# Altium footprint library 插座.PcbLib: 91 footprints (part 1 of 6)
Each footprint in its own frame and in the unit in brackets; x right, y up, seen from the top. Pads: shape width x height; smd on the part's side, far side on the other; paste and mask are expansions set on the pad; w line width, h text height; cw(c..) or ccw(c..) is an arc to the next point about the centre after c.
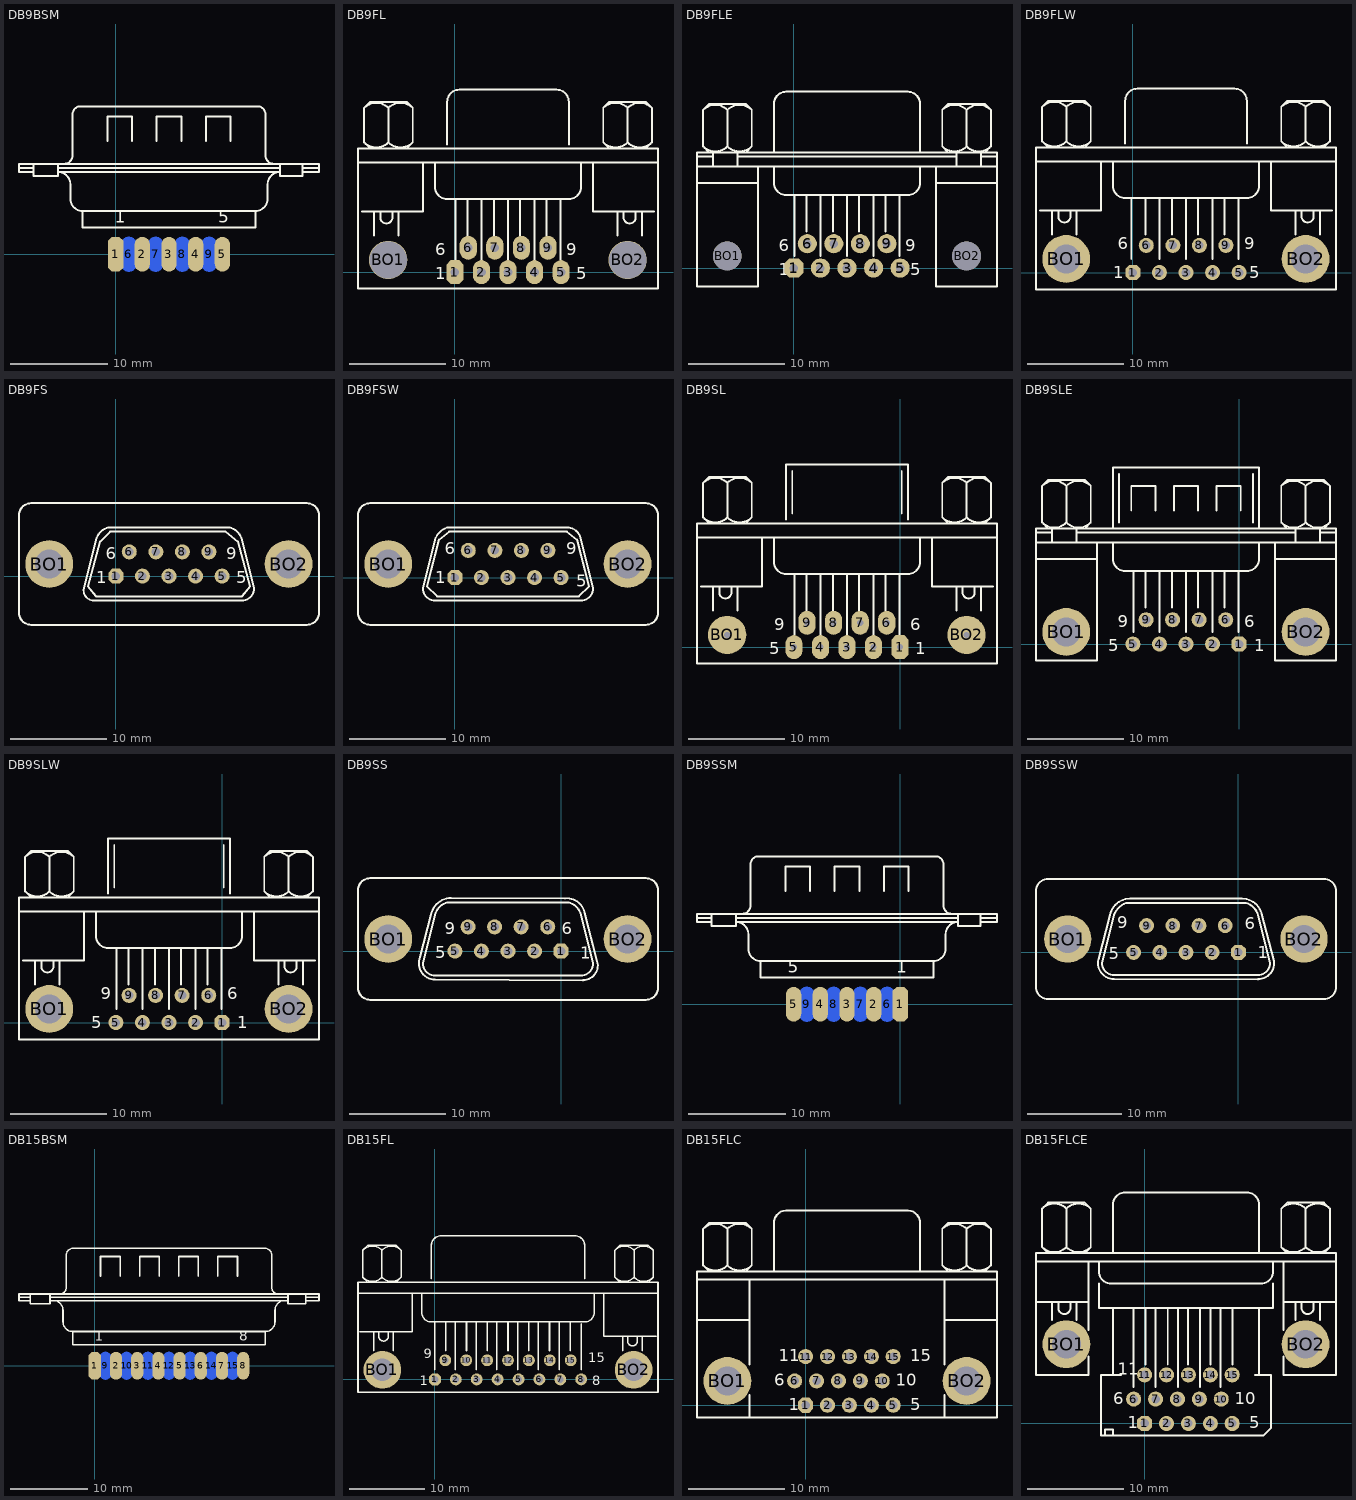
[diagram p0: the footprints below, top view; thin cyan lines are the x and y axes]

## DB9BSM [mil]
pads (9):
  oct 62.5x141.67 smd: 1(0,0)
  oval 62.5x141.67 smd: 2(108.33,0) 3(216.67,0) 4(325,0) 5(433.33,0)
  oval 62.5x141.67 smd far side: 6(54.17,0) 7(162.5,0) 8(270.83,0) 9(379.17,0)
TopOverlay:
  lines w8: -391.67,350 -333.33,350 ; -333.33,333.33 -391.67,333.33 -391.67,366.67 825,366.67 825,333.33 758.33,333.33 ; -333.33,366.67 -333.33,316.67 -233.33,316.67 -233.33,366.67 ; -233.33,350 666.67,350 ; -208.33,366.67 ccw(c-208.33,400) -175,400 -175,566.67 cw(c-141.67,566.67) -141.67,600 575,600 cw(c575,566.67) 608.33,566.67 608.33,400 ccw(c641.67,400) 641.67,366.67 ; -33.33,458.33 -33.33,558.33 66.67,558.33 66.67,458.33 ; 166.67,458.33 166.67,558.33 266.67,558.33 266.67,458.33 ; 366.67,458.33 366.67,558.33 466.67,558.33 466.67,458.33 ; 666.67,366.67 666.67,316.67 758.33,316.67 758.33,366.67 ; 758.33,350 825,350 ; -133.33,175 cw(c-133.33,225) -183.33,225 -183.33,283.33 ccw(c-233.33,283.33) -233.33,333.33 666.67,333.33 ccw(c666.67,283.33) 616.67,283.33 616.67,225 cw(c566.67,225) 566.67,175 ; -133.33,175 566.67,175 ; -133.33,175 -133.33,108.33 566.67,108.33 566.67,175
  text "5" at 416.67,128.33 h50
  text "1" at -3.33,128.33 h50

## DB9FL [mm]
pads (11):
  oct 1.8x2.5 hole 0.9: 1(0,0)
  oval 1.8x2.5 hole 0.9: 2(2.773,0) 3(5.546,0) 4(8.318,0) 5(11.091,0) 6(1.397,2.54) 7(4.17,2.54) 8(6.943,2.54) 9(9.715,2.54)
  round 4 hole 3.9: BO1(-6.964,1.27) BO2(18.034,1.27)
TopOverlay:
  lines w0.203: -10.118,11.43 21.209,11.43 ; -9.694,6.35 -3.344,6.35 -3.344,11.43 ; -9.485,13.544 ccw(c-8.213,14.817) -6.94,13.544 ; -9.485,17.147 cw(c-8.213,15.875) -6.94,17.147 ; -8.848,12.912 -9.483,13.547 -9.483,17.145 -8.848,17.78 -5.038,17.78 -4.403,17.145 -4.403,13.547 -5.038,12.912 ; -8.424,3.81 -8.424,6.35 ; -7.789,6.35 -7.789,5.715 ccw(c-7.154,5.715) -6.519,5.715 -6.519,6.35 ; -6.945,13.544 ccw(c-5.673,14.817) -4.4,13.544 ; -6.945,17.147 cw(c-5.673,15.875) -4.4,17.147 ; -6.943,13.547 -6.943,17.145 ; -5.884,3.81 -5.884,6.35 ; -2.074,11.43 -2.074,8.89 ccw(c-0.804,8.89) -0.804,7.62 11.896,7.62 ccw(c11.896,8.89) 13.166,8.89 13.166,11.43 ; -0.804,13.335 -0.804,17.78 cw(c0.466,17.78) 0.466,19.05 10.626,19.05 cw(c10.626,17.78) 11.896,17.78 11.896,13.335 ; 0.042,1.27 0.042,7.62 ; 1.312,3.81 1.312,7.62 ; 2.794,1.27 2.794,7.62 ; 4.064,3.81 4.064,7.62 ; 5.546,1.27 5.546,7.62 ; 6.816,3.81 6.816,7.62 ; 8.297,1.27 8.297,7.62 ; 9.567,3.81 9.567,7.62 ; 11.049,1.27 11.049,7.62 ; 14.436,11.43 14.436,6.35 20.786,6.35 ; 15.492,13.544 ccw(c16.764,14.817) 18.036,13.544 ; 15.492,17.147 cw(c16.764,15.875) 18.036,17.147 ; 16.129,12.912 15.494,13.547 15.494,17.145 16.129,17.78 19.939,17.78 20.574,17.145 20.574,13.547 19.939,12.912 ; 16.976,3.81 16.976,6.35 ; 17.611,6.35 17.611,5.715 ccw(c18.246,5.715) 18.881,5.715 18.881,6.35 ; 18.032,13.544 ccw(c19.304,14.817) 20.576,13.544 ; 18.032,17.147 cw(c19.304,15.875) 20.576,17.147 ; 18.034,13.547 18.034,17.145 ; 19.516,3.81 19.516,6.35 ; -10.118,-1.693 -10.118,12.912 21.209,12.912 21.209,-1.693 -10.118,-1.693
  text "6" at -2.074,1.778 h1.27
  text "1" at -2.074,-0.762 h1.27
  text "5" at 12.658,-0.762 h1.27
  text "9" at 11.642,1.778 h1.27

## DB9FLE [mm]
pads (11):
  oct 2x2 hole 0.889: 1(0,0)
  round 2 hole 0.889: 2(2.773,0) 3(5.546,0) 4(8.318,0) 5(11.091,0) 6(1.397,2.54) 7(4.17,2.54) 8(6.943,2.54) 9(9.715,2.54)
  round 3 hole 3.006: BO1(-6.964,1.27) BO2(18.034,1.27)
TopOverlay:
  lines w0.203: -10.118,8.89 -3.768,8.89 ; -10.118,10.583 21.209,10.583 ; -10.118,11.642 -8.424,11.642 ; -9.485,12.698 ccw(c-8.213,13.97) -6.94,12.698 ; -9.485,16.512 cw(c-8.213,15.24) -6.94,16.512 ; -8.848,12.065 -9.483,12.7 -9.483,16.51 -8.848,17.145 -5.038,17.145 -4.403,16.51 -4.403,12.7 -5.038,12.065 ; -8.424,10.583 -8.424,12.065 ; -6.945,12.698 ccw(c-5.673,13.97) -4.4,12.698 ; -6.945,16.512 cw(c-5.673,15.24) -4.4,16.512 ; -6.943,12.7 -6.943,16.51 ; -5.884,10.583 -5.884,12.065 ; -5.884,11.642 16.976,11.642 ; -3.768,10.583 -3.768,-1.905 -10.118,-1.905 -10.118,12.065 21.209,12.065 21.209,-1.905 14.859,-1.905 14.859,10.583 ; -2.074,10.583 -2.074,8.89 ccw(c-0.804,8.89) -0.804,7.62 11.896,7.62 ccw(c11.896,8.89) 13.166,8.89 13.166,10.583 ; -2.074,12.065 -2.074,17.145 cw(c-0.804,17.145) -0.804,18.415 11.896,18.415 cw(c11.896,17.145) 13.166,17.145 13.166,12.065 ; 0.042,1.27 0.042,7.62 ; 1.312,3.81 1.312,7.62 ; 2.794,1.27 2.794,7.62 ; 4.064,3.81 4.064,7.62 ; 5.546,1.27 5.546,7.62 ; 6.816,3.81 6.816,7.62 ; 8.297,1.27 8.297,7.62 ; 9.567,3.81 9.567,7.62 ; 11.049,1.27 11.049,7.62 ; 14.859,8.89 21.209,8.89 ; 15.492,12.698 ccw(c16.764,13.97) 18.036,12.698 ; 15.492,16.512 cw(c16.764,15.24) 18.036,16.512 ; 16.129,12.065 15.494,12.7 15.494,16.51 16.129,17.145 19.939,17.145 20.574,16.51 20.574,12.7 19.939,12.065 ; 16.976,10.583 16.976,12.065 ; 18.032,12.698 ccw(c19.304,13.97) 20.576,12.698 ; 18.032,16.512 cw(c19.304,15.24) 20.576,16.512 ; 18.034,12.7 18.034,16.51 ; 19.516,10.583 19.516,12.065 ; 19.516,11.642 21.209,11.642
  text "9" at 11.642,1.778 h1.27
  text "5" at 12.15,-0.762 h1.27
  text "1" at -1.566,-0.762 h1.27
  text "6" at -1.566,1.778 h1.27

## DB9FLW [mil]
pads (11):
  oct 62x62 hole 35: 1(0,0)
  round 62 hole 35: 2(109.17,0) 3(218.33,0) 4(327.5,0) 5(436.67,0) 6(55,111.67) 7(164.17,111.67) 8(273.33,111.67) 9(382.5,111.67)
  round 196.67 hole 118.33: BO1(-274.17,55.83) BO2(710,55.83)
TopOverlay:
  lines w8: -398.33,455.83 835,455.83 ; -381.67,255.83 -131.67,255.83 -131.67,455.83 ; -373.42,539.08 ccw(c-323.33,589.17) -273.25,539.08 ; -373.42,680.92 cw(c-323.33,630.83) -273.25,680.92 ; -348.33,514.17 -373.33,539.17 -373.33,680.83 -348.33,705.83 -198.33,705.83 -173.33,680.83 -173.33,539.17 -198.33,514.17 ; -331.67,155.83 -331.67,255.83 ; -306.67,255.83 -306.67,230.83 ccw(c-281.67,230.83) -256.67,230.83 -256.67,255.83 ; -273.42,539.08 ccw(c-223.33,589.17) -173.25,539.08 ; -273.42,680.92 cw(c-223.33,630.83) -173.25,680.92 ; -273.33,539.17 -273.33,680.83 ; -231.67,155.83 -231.67,255.83 ; -81.67,455.83 -81.67,355.83 ccw(c-31.67,355.83) -31.67,305.83 468.33,305.83 ccw(c468.33,355.83) 518.33,355.83 518.33,455.83 ; -31.67,530.83 -31.67,705.83 cw(c18.33,705.83) 18.33,755.83 393.33,755.83 418.33,755.83 cw(c418.33,705.83) 468.33,705.83 468.33,530.83 ; -6.67,55.83 -6.67,305.83 ; 51.67,155.83 51.67,305.83 ; 110,55.83 110,305.83 ; 160,155.83 160,305.83 ; 218.33,55.83 218.33,305.83 ; 268.33,155.83 268.33,305.83 ; 326.67,55.83 326.67,305.83 ; 376.67,155.83 376.67,305.83 ; 435,55.83 435,305.83 ; 568.33,455.83 568.33,255.83 818.33,255.83 ; 609.91,539.08 ccw(c660,589.17) 710.09,539.08 ; 609.91,680.92 cw(c660,630.83) 710.09,680.92 ; 635,514.17 610,539.17 610,680.83 635,705.83 785,705.83 810,680.83 810,539.17 785,514.17 ; 668.33,155.83 668.33,255.83 ; 693.33,255.83 693.33,230.83 ccw(c718.33,230.83) 743.33,230.83 743.33,255.83 ; 709.91,539.08 ccw(c760,589.17) 810.09,539.08 ; 709.91,680.92 cw(c760,630.83) 810.09,680.92 ; 710,539.17 710,680.83 ; 768.33,155.83 768.33,255.83 ; -398.33,-69.17 835,-69.17 835,514.17 -398.33,514.17 -398.33,-69.17
  text "9" at 458.33,95.83 h50
  text "5" at 478.33,-24.17 h50
  text "1" at -81.67,-24.17 h50
  text "6" at -61.67,95.83 h50

## DB9FS [mil]
pads (11):
  oct 62x62 hole 35: 1(0,0)
  round 62 hole 35: 2(109.17,0) 3(218.33,0) 4(327.5,0) 5(436.67,0) 6(55,100) 7(164.17,100) 8(273.33,100) 9(382.5,100)
  round 196.67 hole 118.33: BO1(-274.17,50) BO2(710,50)
TopOverlay:
  lines w8: -131.72,-50.22 ccw(c-90,-58.33) -81.89,-100.05 ; -131.67,-50 -81.67,150 ; -81.67,-100 518.33,-100 ccw(c518.33,-50) 568.33,-50 518.33,150 ; -81.3,149.86 cw(c-15,133.33) -31.53,199.64 ; -31.67,200 468.33,200 ; 468.2,199.64 cw(c451.67,133.33) 517.97,149.86 ; -398.33,-150 ccw(c-348.33,-150) -348.33,-200 785,-200 ccw(c785,-150) 835,-150 835,250 ccw(c785,250) 785,300 -348.33,300 ccw(c-348.33,250) -398.33,250 -398.33,-150 ; -115,-41.67 -65,141.67 -23.33,183.33 451.67,183.33 501.67,141.67 551.67,-41.67 518.33,-83.33 -81.67,-83.33 -115,-41.67
  text "1" at -81.67,-30 h50
  text "5" at 494.63,-29.7 h50
  text "6" at -41.67,70 h50
  text "9" at 454.03,70.2 h50

## DB9FSW [mil]
pads (11):
  oct 62x62 hole 35: 1(0,0)
  round 62 hole 35: 2(109.17,0) 3(218.33,0) 4(327.5,0) 5(436.67,0) 6(55,111.67) 7(164.17,111.67) 8(273.33,111.67) 9(382.5,111.67)
  round 196.67 hole 118.33: BO1(-274.17,55.83) BO2(710,55.83)
TopOverlay:
  lines w8: -398.33,255.83 cw(c-348.33,255.83) -348.33,305.83 785,305.83 cw(c785,255.83) 835,255.83 835,-144.17 cw(c785,-144.17) 785,-194.17 -348.33,-194.17 cw(c-348.33,-144.17) -398.33,-144.17 -398.33,264.17 ; -81.67,155.83 -131.67,-44.17 ccw(c-81.67,-44.17) -81.67,-94.17 518.33,-94.17 ccw(c518.33,-44.17) 568.33,-44.17 518.33,155.83 ; -78.99,163.03 cw(c-6.67,130.83) -31.13,206.12 ; -31.67,205.83 468.33,205.83 ; 468.23,206.09 cw(c460,147.5) 518.59,155.73 ; -115,-35.83 -73.33,-77.5 510,-77.5 551.67,-35.83 501.67,155.83 460,189.17 -23.33,189.17 -65,155.83 -115,-35.83
  text "9" at 458.33,95.83 h50
  text "5" at 499.33,-37.97 h50
  text "1" at -81.67,-24.17 h50
  text "6" at -41.67,95.83 h50

## DB9SL [mm]
pads (11):
  oct 1.8x2.5 hole 0.65: 1(0,0)
  oval 1.8x2.5 hole 0.65: 2(-2.773,0) 3(-5.546,0) 4(-8.318,0) 5(-11.091,0) 6(-1.397,2.54) 7(-4.17,2.54) 8(-6.943,2.54) 9(-9.715,2.54)
  round 4 hole 0.65: BO1(-18.055,1.27) BO2(6.943,1.27)
TopOverlay:
  lines w0.203: -21.209,11.43 10.118,11.43 ; -20.786,6.35 -14.436,6.35 -14.436,11.43 ; -20.576,13.544 ccw(c-19.304,14.817) -18.032,13.544 ; -20.576,17.147 cw(c-19.304,15.875) -18.032,17.147 ; -19.939,12.912 -20.574,13.547 -20.574,17.145 -19.939,17.78 -16.129,17.78 -15.494,17.145 -15.494,13.547 -16.129,12.912 ; -19.516,3.81 -19.516,6.35 ; -18.881,6.35 -18.881,5.715 ccw(c-18.246,5.715) -17.611,5.715 -17.611,6.35 ; -18.036,13.544 ccw(c-16.764,14.817) -15.492,13.544 ; -18.036,17.147 cw(c-16.764,15.875) -15.492,17.147 ; -18.034,13.547 -18.034,17.145 ; -16.976,3.81 -16.976,6.35 ; -13.166,11.43 -13.166,8.89 ccw(c-11.896,8.89) -11.896,7.62 0.804,7.62 ccw(c0.804,8.89) 2.074,8.89 2.074,11.43 ; -11.896,13.335 -11.896,19.05 0.804,19.05 0.804,13.335 ; -11.261,13.97 -11.261,18.415 ; -11.049,1.27 -11.049,7.62 ; -9.779,3.81 -9.779,7.62 ; -8.297,1.27 -8.297,7.62 ; -7.027,3.81 -7.027,7.62 ; -5.546,1.27 -5.546,7.62 ; -4.276,3.81 -4.276,7.62 ; -2.794,1.27 -2.794,7.62 ; -1.524,3.81 -1.524,4.022 -1.524,7.62 ; -0.042,1.27 -0.042,7.62 ; 0.169,13.97 0.169,18.415 ; 3.344,11.43 3.344,6.35 9.694,6.35 ; 4.4,13.544 ccw(c5.673,14.817) 6.945,13.544 ; 4.4,17.147 cw(c5.673,15.875) 6.945,17.147 ; 5.038,12.912 4.403,13.547 4.403,17.145 5.038,17.78 8.848,17.78 9.483,17.145 9.483,13.547 8.848,12.912 ; 5.884,3.81 5.884,6.35 ; 6.519,6.35 6.519,5.715 ccw(c7.154,5.715) 7.789,5.715 7.789,6.35 ; 6.94,13.544 ccw(c8.213,14.817) 9.485,13.544 ; 6.94,17.147 cw(c8.213,15.875) 9.485,17.147 ; 6.943,13.547 6.943,17.145 ; 8.424,3.81 8.424,6.35 ; -21.209,-1.693 -21.209,12.912 10.118,12.912 10.118,-1.693 -21.209,-1.693
  text "9" at -13.166,1.778 h1.27
  text "5" at -13.674,-0.762 h1.27
  text "1" at 1.566,-0.762 h1.27
  text "6" at 1.058,1.778 h1.27

## DB9SLE [mil]
pads (11):
  oct 62x62 hole 35: 1(0,0)
  round 62 hole 35: 2(-109.17,0) 3(-218.33,0) 4(-327.5,0) 5(-436.67,0) 6(-55,100) 7(-164.17,100) 8(-273.33,100) 9(-382.5,100)
  round 196.67 hole 118.33: BO1(-710.83,50) BO2(273.33,50)
TopOverlay:
  lines w8: -835,350 -585,350 ; -835,416.67 398.33,416.67 ; -835,458.33 -768.33,458.33 ; -810.09,499.91 ccw(c-760,550) -709.91,499.91 ; -810.09,650.09 cw(c-760,600) -709.91,650.09 ; -785,475 -810,500 -810,650 -785,675 -635,675 -610,650 -610,500 -635,475 ; -768.33,416.67 -768.33,475 ; -710.09,499.91 ccw(c-660,550) -609.91,499.91 ; -710.09,650.09 cw(c-660,600) -609.91,650.09 ; -710,500 -710,650 ; -668.33,416.67 -668.33,475 ; -668.33,458.33 231.67,458.33 ; -585,416.67 -585,-66.67 -835,-66.67 -835,475 398.33,475 398.33,-66.67 148.33,-66.67 148.33,416.67 ; -518.33,416.67 -518.33,350 ccw(c-468.33,350) -468.33,300 31.67,300 ccw(c31.67,350) 81.67,350 81.67,416.67 ; -518.33,475 -518.33,725 81.67,725 81.67,475 ; -493.33,500 -493.33,700 ; -443.33,550 -443.33,650 -343.33,650 -343.33,550 ; -435,50 -435,300 ; -385,150 -385,300 ; -326.67,50 -326.67,300 ; -276.67,150 -276.67,300 ; -268.33,550 -268.33,650 -168.33,650 -168.33,550 ; -218.33,50 -218.33,300 ; -168.33,150 -168.33,300 ; -110,50 -110,300 ; -93.33,550 -93.33,650 6.67,650 6.67,550 ; -60,150 -60,300 ; -1.67,50 -1.67,300 ; 56.67,500 56.67,700 ; 148.33,350 398.33,350 ; 173.25,499.91 ccw(c223.33,550) 273.42,499.91 ; 173.25,650.09 cw(c223.33,600) 273.42,650.09 ; 198.33,475 173.33,500 173.33,650 198.33,675 348.33,675 373.33,650 373.33,500 348.33,475 ; 231.67,416.67 231.67,475 ; 273.25,499.91 ccw(c323.33,550) 373.42,499.91 ; 273.25,650.09 cw(c323.33,600) 373.42,650.09 ; 273.33,500 273.33,650 ; 331.67,416.67 331.67,475 ; 331.67,458.33 398.33,458.33
  text "9" at -498.33,70 h50
  text "5" at -538.33,-30 h50
  text "6" at 21.67,70 h50
  text "1" at 61.67,-30 h50

## DB9SLW [mil]
pads (11):
  oct 62x62 hole 35: 1(0,0)
  round 62 hole 35: 2(-109.17,0) 3(-218.33,0) 4(-327.5,0) 5(-436.67,0) 6(-55,111.67) 7(-164.17,111.67) 8(-273.33,111.67) 9(-382.5,111.67)
  round 196.67 hole 118.33: BO1(-710.83,55.83) BO2(273.33,55.83)
TopOverlay:
  lines w8: -835,455.83 398.33,455.83 ; -818.33,255.83 -568.33,255.83 -568.33,455.83 ; -810.09,539.08 ccw(c-760,589.17) -709.91,539.08 ; -810.09,680.92 cw(c-760,630.83) -709.91,680.92 ; -785,514.17 -810,539.17 -810,680.83 -785,705.83 -635,705.83 -610,680.83 -610,539.17 -635,514.17 ; -768.33,155.83 -768.33,255.83 ; -743.33,255.83 -743.33,230.83 ccw(c-718.33,230.83) -693.33,230.83 -693.33,255.83 ; -710.09,539.08 ccw(c-660,589.17) -609.91,539.08 ; -710.09,680.92 cw(c-660,630.83) -609.91,680.92 ; -710,539.17 -710,680.83 ; -668.33,155.83 -668.33,255.83 ; -518.33,455.83 -518.33,355.83 ccw(c-468.33,355.83) -468.33,305.83 31.67,305.83 ccw(c31.67,355.83) 81.67,355.83 81.67,455.83 ; -468.33,530.83 -468.33,755.83 31.67,755.83 31.67,530.83 ; -443.33,555.83 -443.33,730.83 ; -435,55.83 -435,305.83 ; -385,155.83 -385,305.83 ; -326.67,55.83 -326.67,305.83 ; -276.67,155.83 -276.67,305.83 ; -218.33,55.83 -218.33,305.83 ; -168.33,155.83 -168.33,305.83 ; -110,55.83 -110,305.83 ; -60,155.83 -60,305.83 ; -1.67,55.83 -1.67,305.83 ; 6.67,555.83 6.67,730.83 ; 131.67,455.83 131.67,255.83 381.67,255.83 ; 173.25,539.08 ccw(c223.33,589.17) 273.42,539.08 ; 173.25,680.92 cw(c223.33,630.83) 273.42,680.92 ; 198.33,514.17 173.33,539.17 173.33,680.83 198.33,705.83 348.33,705.83 373.33,680.83 373.33,539.17 348.33,514.17 ; 231.67,155.83 231.67,255.83 ; 256.67,255.83 256.67,230.83 ccw(c281.67,230.83) 306.67,230.83 306.67,255.83 ; 273.25,539.08 ccw(c323.33,589.17) 373.42,539.08 ; 273.25,680.92 cw(c323.33,630.83) 373.42,680.92 ; 273.33,539.17 273.33,680.83 ; 331.67,155.83 331.67,255.83 ; -835,-69.17 -835,514.17 398.33,514.17 398.33,-69.17 -835,-69.17
  text "9" at -498.33,95.83 h50
  text "5" at -538.33,-24.17 h50
  text "1" at 61.67,-24.17 h50
  text "6" at 21.67,95.83 h50

## DB9SS [mil]
pads (11):
  oct 62x62 hole 35: 1(0,0)
  round 62 hole 35: 2(-109.17,0) 3(-218.33,0) 4(-327.5,0) 5(-436.67,0) 6(-55,100) 7(-164.17,100) 8(-273.33,100) 9(-382.5,100)
  round 196.67 hole 118.33: BO1(-710.83,50) BO2(273.33,50)
TopOverlay:
  lines w8: -580,-23.33 -535,150 ; -579.7,-23.95 ccw(c-518.33,-50) -518.33,-116.67 90,-120 ; -535.1,149.55 cw(c-451.67,133.33) -451.67,218.33 15,216.67 ; -518.33,150 -568.33,-50 ccw(c-518.33,-50) -518.33,-100 81.67,-100 ccw(c81.67,-50) 131.67,-50 81.67,150 ; -517.97,149.86 cw(c-451.67,133.33) -468.2,199.64 ; -468.33,200 31.67,200 ; 15.41,217.08 cw(c23.33,141.67) 97.22,158.72 ; 31.53,199.64 cw(c15,133.33) 81.3,149.86 ; 90,-119.17 ccw(c90,-58.33) 148.48,-41.57 ; 96.67,158.33 148.33,-41.67 ; -835,-150 ccw(c-785,-150) -785,-200 348.33,-200 ccw(c348.33,-150) 398.33,-150 398.33,250 ccw(c348.33,250) 348.33,300 -785,300 ccw(c-785,250) -835,250 -835,-150
  text "6" at 1.67,70 h50
  text "1" at 78.27,-31.3 h50
  text "5" at -518.33,-30 h50
  text "9" at -478.33,70 h50

## DB9SSM [mil]
pads (9):
  oct 62.5x141.67 smd: 1(0,0)
  oval 62.5x141.67 smd: 2(-108.33,0) 3(-216.67,0) 4(-325,0) 5(-433.33,0)
  oval 62.5x141.67 smd far side: 6(-54.17,0) 7(-162.5,0) 8(-270.83,0) 9(-379.17,0)
TopOverlay:
  lines w8: -825,350 -766.67,350 ; -766.67,333.33 -825,333.33 -825,366.67 391.67,366.67 391.67,333.33 325,333.33 ; -766.67,366.67 -766.67,316.67 -666.67,316.67 -666.67,366.67 ; -666.67,350 233.33,350 ; -641.67,366.67 ccw(c-641.67,400) -608.33,400 -608.33,566.67 cw(c-575,566.67) -575,600 141.67,600 cw(c141.67,566.67) 175,566.67 175,400 ccw(c208.33,400) 208.33,366.67 ; -466.67,458.33 -466.67,558.33 -366.67,558.33 -366.67,458.33 ; -266.67,458.33 -266.67,558.33 -166.67,558.33 -166.67,458.33 ; -66.67,458.33 -66.67,558.33 33.33,558.33 33.33,458.33 ; 233.33,366.67 233.33,316.67 325,316.67 325,366.67 ; 325,350 391.67,350 ; -566.67,175 cw(c-566.67,225) -616.67,225 -616.67,283.33 ccw(c-666.67,283.33) -666.67,333.33 233.33,333.33 ccw(c233.33,283.33) 183.33,283.33 183.33,225 cw(c133.33,225) 133.33,175 ; -566.67,175 -566.67,108.33 133.33,108.33 133.33,175 ; -566.67,175 133.33,175
  text "5" at -456.67,128.33 h50
  text "1" at -16.67,128.33 h50

## DB9SSW [mil]
pads (11):
  oct 62x62 hole 35: 1(0,0)
  round 62 hole 35: 2(-109.17,0) 3(-218.33,0) 4(-327.5,0) 5(-436.67,0) 6(-55,111.67) 7(-164.17,111.67) 8(-273.33,111.67) 9(-382.5,111.67)
  round 196.67 hole 118.33: BO1(-710.83,55.83) BO2(273.33,55.83)
TopOverlay:
  lines w8: -583.33,-29.17 -535,155.83 ; -583.02,-28.04 ccw(c-518.33,-44.17) -518.33,-110.83 81.67,-112.5 ; -535.1,155.38 cw(c-451.67,139.17) -451.67,224.17 15,224.17 cw(c15,139.17) 96.29,164.02 ; -518.45,156.21 cw(c-435,122.5) -468.71,205.95 ; -518.33,155.83 -568.33,-44.17 ccw(c-518.33,-44.17) -518.33,-94.17 81.67,-94.17 ccw(c81.67,-44.17) 131.67,-44.17 81.67,155.83 ; -468.33,205.83 31.67,205.83 ; 31.53,205.47 cw(c15,139.17) 81.3,155.7 ; 81.67,-111.67 ccw(c81.67,-44.17) 148.66,-35.94 ; 96.67,162.5 148.33,-35.83 ; -843.33,-144.17 ccw(c-793.33,-144.17) -793.33,-194.17 356.67,-194.17 ccw(c356.67,-144.17) 406.67,-144.17 406.67,255.83 ccw(c356.67,255.83) 356.67,305.83 -793.33,305.83 ccw(c-793.33,255.83) -843.33,255.83 -843.33,-144.17
  text "6" at 27.27,95.73 h50
  text "1" at 81.07,-24.47 h50
  text "5" at -540.83,-29.27 h50
  text "9" at -504.43,100.53 h50

## DB15BSM [mil]
pads (15):
  oct 62.5x141.67 smd: 1(0,0)
  oval 62.5x141.67 smd: 2(108.33,0) 3(216.67,0) 4(325,0) 5(433.33,0) 6(541.67,0) 7(650,0) 8(758.33,0)
  oval 62.5x141.67 smd far side: 9(54.17,0) 10(162.5,0) 11(270.83,0) 12(379.17,0) 13(487.5,0) 14(595.83,0) 15(704.17,0)
TopOverlay:
  lines w8: -387.5,350 -329.17,350 ; -329.17,333.33 -387.5,333.33 -387.5,366.67 1145.83,366.67 1145.83,333.33 1079.17,333.33 ; -329.17,366.67 -329.17,316.67 -229.17,316.67 -229.17,366.67 ; -229.17,333.33 987.5,333.33 ; -229.17,350 987.5,350 ; -212.5,333.33 cw(c-212.5,283.33) -162.5,283.33 -162.5,225 ccw(c-112.5,225) -112.5,175 ; -179.17,366.67 ccw(c-179.17,400) -145.83,400 -145.83,566.67 cw(c-112.5,566.67) -112.5,600 870.83,600 cw(c870.83,566.67) 904.16,566.67 904.17,400 ccw(c937.5,400) 937.5,366.67 ; 29.17,458.33 29.17,558.33 129.17,558.33 129.17,458.33 ; 229.17,458.33 229.17,558.33 329.17,558.33 329.17,458.33 ; 429.17,458.33 429.17,558.33 529.17,558.33 529.17,458.33 ; 629.17,458.33 629.17,558.33 729.17,558.33 729.17,458.33 ; 970.83,333.33 ccw(c970.83,283.33) 920.83,283.33 920.83,225 cw(c870.83,225) 870.83,175 ; 987.5,366.67 987.5,316.67 1079.17,316.67 1079.17,366.67 ; 1079.17,350 1145.83,350 ; -112.5,175 870.83,175 ; -112.5,175 -112.5,108.33 870.83,108.33 870.83,175
  text "8" at 739.17,128.33 h50
  text "1" at -0.83,128.33 h50

## DB15FL [mil]
pads (17):
  oct 62x62 hole 35: 1(0,0)
  round 62 hole 35: 2(109.17,0) 3(218.33,0) 4(327.5,0) 5(436.67,0) 6(545.83,0) 7(655,0) 8(764.17,0) 9(54.17,100) 10(163.33,100) 11(272.5,100) 12(381.67,100) 13(490.83,100) 14(600,100) 15(709.17,100)
  round 196.67 hole 118.33: BO1(-274.17,50) BO2(1037.5,50)
TopOverlay:
  lines w8: -401.67,450 1165,450 ; -393.33,250 -118.33,250 -118.33,450 ; -376.75,533.25 ccw(c-326.67,583.33) -276.58,533.25 ; -376.75,675.09 cw(c-326.67,625) -276.58,675.09 ; -351.67,508.33 -376.67,533.33 -376.67,675 -351.67,700 -201.67,700 -176.67,675 -176.67,533.33 -201.67,508.33 ; -318.33,150 -318.33,250 ; -293.33,250 -293.33,225 ccw(c-268.33,225) -243.33,225 -243.33,250 ; -276.75,533.25 ccw(c-226.67,583.33) -176.58,533.25 ; -276.75,675.09 cw(c-226.67,625) -176.58,675.09 ; -276.67,533.33 -276.67,675 ; -218.33,150 -218.33,250 ; -68.33,450 -68.33,350 ccw(c-18.33,350) -18.33,300 781.67,300 ccw(c781.67,350) 831.67,350 831.67,450 ; -18.33,525 -18.33,700 cw(c31.67,700) 31.67,750 731.67,750 cw(c731.67,700) 781.67,700 781.67,525 ; -1.67,50 -1.67,300 ; 56.67,150 56.67,300 ; 106.67,50 106.67,300 ; 165,150 165,300 ; 215,50 215,300 ; 273.33,150 273.33,300 ; 323.33,50 323.33,300 ; 381.67,150 381.67,300 ; 431.67,50 431.67,300 ; 490,150 490,300 ; 540,50 540,300 ; 598.33,150 598.33,300 ; 648.33,50 648.33,300 ; 706.67,150 706.67,300 ; 765,50 765,291.67 ; 881.67,450 881.67,225 1156.67,225 ; 939.91,533.25 ccw(c990,583.33) 1040.09,533.25 ; 939.91,675.09 cw(c990,625) 1040.09,675.09 ; 965,508.33 940,533.33 940,675 965,700 1115,700 1140,675 1140,533.33 1115,508.33 ; 981.67,150 981.67,225 ; 1006.67,225 1006.67,200 ccw(c1031.67,200) 1056.67,200 1056.67,225 ; 1039.91,533.25 ccw(c1090,583.33) 1140.09,533.25 ; 1039.91,675.09 cw(c1090,625) 1140.09,675.09 ; 1040,533.33 1040,675 ; 1081.67,150 1081.67,225 ; -401.67,-66.67 -401.67,508.33 1165,508.33 1165,-66.67 -401.67,-66.67
  text "8" at 821.67,-30 h50
  text "15" at 801.67,90 h50
  text "9" at -58.33,110 h50
  text "1" at -78.33,-30 h50

## DB15FLC [mil]
pads (17):
  oct 62x62 hole 35: 1(0,0)
  round 62 hole 35: 2(90,0) 3(180,0) 4(270,0) 5(360,0) 6(-45,100) 7(45,100) 8(135,100) 9(225,100) 10(315,100) 11(0,200) 12(90,200) 13(180,200) 14(270,200) 15(360,200)
  round 196.67 hole 118.33: BO1(-321.67,100) BO2(661.67,100)
TopOverlay:
  lines w8: -446.67,350 -230,350 ; -446.67,516.67 786.67,516.67 ; -421.75,574.91 ccw(c-371.67,625) -321.58,574.91 ; -421.75,725.09 cw(c-371.67,675) -321.58,725.09 ; -396.67,550 -421.67,575 -421.67,725 -396.67,750 -246.67,750 -221.67,725 -221.67,575 -246.67,550 ; -321.75,574.91 ccw(c-271.67,625) -221.58,574.91 ; -321.75,725.09 cw(c-271.67,675) -221.58,725.09 ; -321.67,575 -321.67,725 ; -230,-50 -230,41.67 ; -230,166.67 -230,350 ; -230,516.67 -230,350 ; -130,550 -130,750 cw(c-80,750) -80,800 420,800 cw(c420,750) 470,750 470,550 ; 561.58,574.91 ccw(c611.67,625) 661.75,574.91 ; 561.58,725.09 cw(c611.67,675) 661.75,725.09 ; 570,-50 570,41.67 ; 570,166.67 570,350 ; 570,516.67 570,350 ; 586.67,550 561.67,575 561.67,725 586.67,750 736.67,750 761.67,725 761.67,575 736.67,550 ; 661.58,574.91 ccw(c711.67,625) 761.75,574.91 ; 661.58,725.09 cw(c711.67,675) 761.75,725.09 ; 661.67,575 661.67,725 ; 786.67,350 570,350 ; -446.67,-50 786.67,-50 786.67,550 -446.67,550 -446.67,-50
  text "1" at -70,-20 h50
  text "6" at -130,80 h50
  text "11" at -110,180 h50
  text "15" at 430,180 h50
  text "10" at 370,80 h50
  text "5" at 430,-20 h50

## DB15FLCE [mil]
pads (17):
  oct 62x62 hole 35: 1(0,0)
  round 62 hole 35: 2(90,0) 3(180,0) 4(270,0) 5(360,0) 6(-45,100) 7(45,100) 8(135,100) 9(225,100) 10(315,100) 11(0,200) 12(90,200) 13(180,200) 14(270,200) 15(360,200)
  round 196.67 hole 118.33: BO1(-321.67,325.83) BO2(661.67,325.83)
TopOverlay:
  lines w8: -446.67,500 -230,500 ; -446.67,666.67 786.67,666.67 ; -421.75,724.91 ccw(c-371.67,775) -321.58,724.91 ; -421.75,883.42 cw(c-371.67,833.33) -321.58,883.42 ; -396.67,700 -421.67,725 -421.67,883.33 -396.67,908.33 -246.67,908.33 -221.67,883.33 -221.67,725 -246.67,700 ; -380,425 -380,500 ; -355,500 -355,475 ccw(c-330,475) -305,475 -305,500 ; -321.75,724.91 ccw(c-271.67,775) -221.58,724.91 ; -321.75,883.42 cw(c-271.67,833.33) -221.58,883.42 ; -321.67,725 -321.67,883.33 ; -280,425 -280,500 ; -230,275 -230,200 -446.67,200 -446.67,700 786.67,700 786.67,200 570,200 570,275 ; -230,383.33 -230,500 ; -230,666.67 -230,500 ; -188.33,575 -188.33,475 528.33,475 528.33,575 ; -188.33,666.67 -188.33,625 ccw(c-138.33,625) -138.33,575 478.33,575 ccw(c478.33,625) 528.33,625 528.33,666.67 ; -163.33,-50 -163.33,-25 -130,-25 -130,-50 ; -130,200 -130,475 ; -130,700 -130,900 cw(c-80,900) -80,950 420,950 cw(c420,900) 470,900 470,700 ; -96.67,200 -180,200 -180,-50 -146.67,-50 486.67,-50 520,-16.67 520,200 453.33,200 ; -46.67,150 -46.67,475 ; 3.33,241.67 3.33,475 ; 45,150 45,475 ; 95,241.67 95,475 ; 136.67,150 136.67,475 ; 178.33,241.67 178.33,475 ; 228.33,150 228.33,475 ; 270,241.67 270,475 ; 311.67,150 311.67,475 ; 361.67,241.67 361.67,475 ; 470,200 470,475 ; 561.58,724.91 ccw(c611.67,775) 661.75,724.91 ; 561.58,883.42 cw(c611.67,833.33) 661.75,883.42 ; 570,383.33 570,500 ; 570,666.67 570,500 ; 586.67,700 561.67,725 561.67,883.33 586.67,908.33 736.67,908.33 761.67,883.33 761.67,725 736.67,700 ; 620,425 620,500 ; 645,500 645,475 ccw(c670,475) 695,475 695,500 ; 661.58,724.91 ccw(c711.67,775) 761.75,724.91 ; 661.58,883.42 cw(c711.67,833.33) 761.75,883.42 ; 661.67,725 661.67,883.33 ; 720,425 720,500 ; 786.67,500 570,500
  text "11" at -110,200 h50
  text "6" at -130,80 h50
  text "10" at 370,80 h50
  text "5" at 430,-20 h50
  text "1" at -70,-20 h50